# Altium integrated library ESD9B3.3ST5G.IntLib: 1 symbol
Pins are listed as number, name and electrical type; pins without a type are passive.

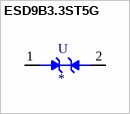
[diagram p0: symbol ESD9B3.3ST5G]

## ESD9B3.3ST5G
designator U
11.5V Clamp 2A _8/20Âµs_ Ipp Tvs Diode Surface Mount SOD-923; MF: ON Semiconductor; MP: ESD9B3.3ST5G; Package: SOD-923 ON Semiconductor; Value: *; Price: None; SnapEDA_Link: https://www.snapeda.com/parts/ESD9B3.3ST5G/ON%20Semiconductor/view-part/234937/?ref=snap; Availability: Unavailable
footprint SODFL1006X40N
pins: 1 A, 2 A1